# EAGLE library part USB.MICRO (library te-connectivity)
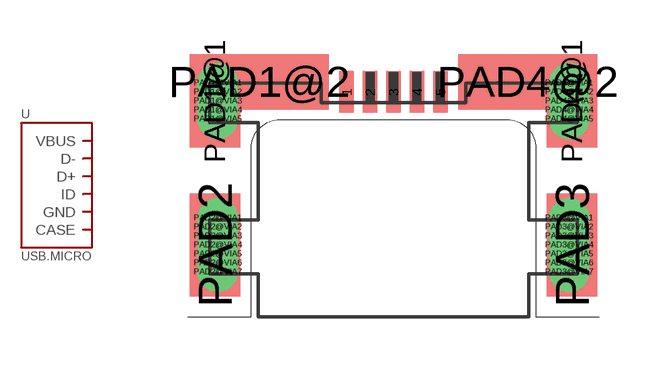
[diagram p0: symbol with the pads of 1554266-1; footprint 1554266-1]

Designator prefix -

## USB.MICRO  [1554266-1]
1  VBUS
2  D-
3  D+
4  ID
5  GND
PAD1@1  CASE
PAD1@2  CASE
PAD1@VIA1  CASE
PAD1@VIA2  CASE
PAD1@VIA3  CASE
PAD1@VIA4  CASE
PAD1@VIA5  CASE
PAD2  CASE
PAD2@VIA1  CASE
PAD2@VIA2  CASE
PAD2@VIA3  CASE
PAD2@VIA4  CASE
PAD2@VIA5  CASE
PAD2@VIA6  CASE
PAD2@VIA7  CASE
PAD3  CASE
PAD3@VIA1  CASE
PAD3@VIA2  CASE
PAD3@VIA3  CASE
PAD3@VIA4  CASE
PAD3@VIA5  CASE
PAD3@VIA6  CASE
PAD3@VIA7  CASE
PAD4@1  CASE
PAD4@2  CASE
PAD4@VIA1  CASE
PAD4@VIA2  CASE
PAD4@VIA3  CASE
PAD4@VIA4  CASE
PAD4@VIA5  CASE

## Footprint 1554266-1 (pad centres in mm)
smd 0.4 x 1.15: 1 -1.3,6.25; 2 -0.65,6.25; 3 0,6.25; 4 0.65,6.25; 5 1.3,6.25
smd 1.41 x 2.6: PAD1@1 -4.955,6; PAD4@1 4.955,6
smd 3.86 x 1.55: PAD1@2 -3.725,6.53; PAD4@2 3.725,6.53
drill 0.6: PAD1@VIA1 -4.875,6.5; PAD1@VIA2 -4.875,6.25; PAD1@VIA3 -4.875,6; PAD1@VIA4 -4.875,5.75; PAD1@VIA5 -4.875,5.5; PAD2@VIA1 -4.875,2.75; PAD2@VIA2 -4.875,2.5; PAD2@VIA3 -4.875,2.25; PAD2@VIA4 -4.875,2; PAD2@VIA5 -4.875,1.75; PAD2@VIA6 -4.875,1.5; PAD2@VIA7 -4.875,1.25; PAD3@VIA1 4.875,2.75; PAD3@VIA2 4.875,2.5; PAD3@VIA3 4.875,2.25; PAD3@VIA4 4.875,2; PAD3@VIA5 4.875,1.75; PAD3@VIA6 4.875,1.5; PAD3@VIA7 4.875,1.25; PAD4@VIA1 4.875,6.5; PAD4@VIA2 4.875,6.25; PAD4@VIA3 4.875,6; PAD4@VIA4 4.875,5.75; PAD4@VIA5 4.875,5.5
smd 1.41 x 2.85: PAD2 -4.955,2; PAD3 4.955,2